# EAGLE library part WIRE-TO-BOARD_5MM08_1X08 (library df4iah_connector)
Wire-to-Board connector 5.08mm 1x08
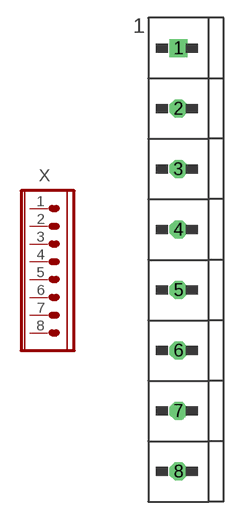
[diagram p17: symbol with the pads of WIRE-TO-BOARD_5MM08_1X08; footprint WIRE-TO-BOARD_5MM08_1X08]

Designator prefix X

## WIRE-TO-BOARD_5MM08_1X08  [WIRE-TO-BOARD_5MM08_1X08]
1  1  pas
2  2  pas
3  3  pas
4  4  pas
5  5  pas
6  6  pas
7  7  pas
8  8  pas

## Footprint WIRE-TO-BOARD_5MM08_1X08 (pad centres in mm)
Wire-to-Board 5.08mm 1X08
drill 1.016 square: 1 0,17.78
drill 1.016 octagon: 2 0,12.7; 3 0,7.62; 4 0,2.54; 5 0,-2.54; 6 0,-7.62; 7 0,-12.7; 8 0,-17.78